# Altium footprint library crystal.PcbLib: 1 footprints
Each footprint in its own frame and in the unit in brackets; x right, y up, seen from the top. Pads: shape width x height; smd on the part's side, far side on the other; paste and mask are expansions set on the pad; w line width, h text height; cw(c..) or ccw(c..) is an arc to the next point about the centre after c.
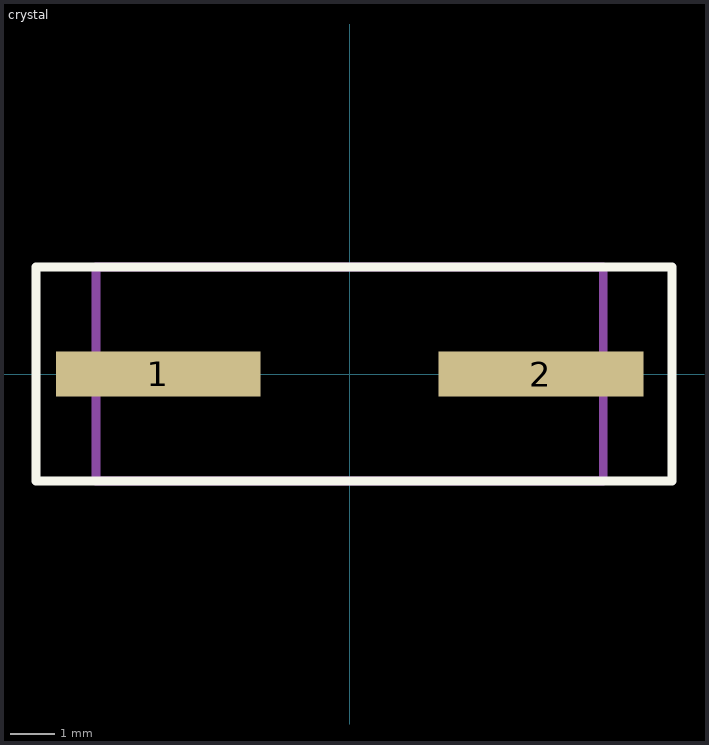
[diagram p0: the footprint, top view; thin cyan lines are the x and y axes]

## crystal [mm] "Kwarc SMD"
pads (2):
  rect 4.6x1 smd: 1(-4.3,0) 2(4.3,0)
Top Overlay:
  lines w0.2: -7.05,-2.4 7.25,-2.4 7.25,2.4 -7.05,2.4 -7.05,-2.4
Mechanical 1:
  lines w0.2: -5.7,-2.4 -5.7,2.4 5.7,2.4 5.7,0 5.7,-2.4 -5.7,-2.4
3D body: height 1.05, standoff 0, extent -5.6,-2.4 5.7,2.4
3D body: height 4.2, standoff 1.05, extent -3.15,-1.9 3.15,1.9
3D body: height 4.2, standoff 0, extent -5.05,-1.898 -1.25,1.898
3D body: height 4.2, standoff 0, extent 1.25,-1.898 5.05,1.898